# Altium schematic symbol library Diodes-TVS-ESD-LEDs.SchLib: 8 symbols
Pins are listed as number, name and electrical type; pins without a type are passive.

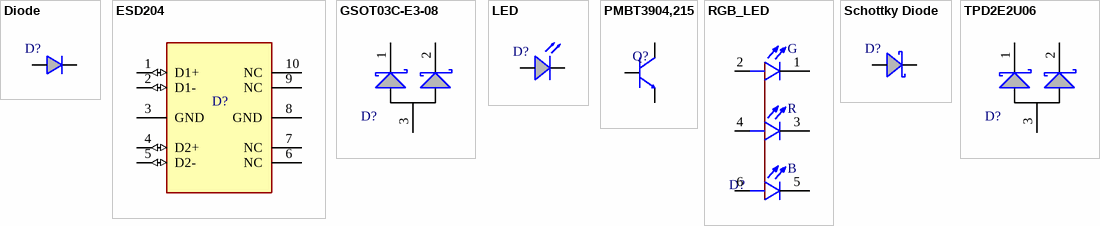
[diagram p0: symbols Diode to TPD2E2U06]

## Diode
designator D?  (value not drawn)
ComponentLink1Description: New link; ComponentLink1URL: *; value: *
footprint DO-219AB
pins: A, C K

## ESD204
designator D?, comment ESD Protection  (value not drawn)
ESD / Quad 0.55-pF, ±3.6-V, ±30-kV ESD protection diode with 5.5A surge rating for USB & HDMI; ComponentLink1Description: New link
footprint USON-10 (ESD204)
pins: 1 D1+ (io), 2 D1- (io), 3 GND (power), 4 D2+ (io), 5 D2- (io), 6 NC, 7 NC, 8 GND (power), 9 NC, 10 NC

## GSOT03C-E3-08
designator D?, comment TVS  (value not drawn)
12.3V Clamp 30A (8/20µs) Ipp Tvs Diode Surface Mount SOT-23-3; ComponentLink1Description: New link; ComponentLink1URL: *; value: *
footprint SOT-23-3
pins: 1 K1, 2 K2, 3 A

## LED
designator D?  (value not drawn)
ComponentLink1Description: New link; ComponentLink1URL: *; value: *
footprint LED_0603
pins: A, C K

## PMBT3904,215
designator Q?, comment Transistor NPN  (value not drawn)
Bipolar (BJT) Transistor NPN 40 V 200 mA 300MHz 250 mW Surface Mount TO-236AB; ComponentLink1Description: New link; ComponentLink1URL: *; value: *
footprint SOT-23-3
pins: 1 B, 2 E, 3 C

## RGB_LED
designator D?  (value not drawn)
ComponentLink1Description: New link; ComponentLink1URL: *; value: *
footprint LED_0606
pins: 1 G_C, 2 G_A, 3 R_C, 4 R_A, 5 B_C, 6 B_A
text: G; R; B

## Schottky Diode
designator D?  (value not drawn)
Schottky Diodes & Rectifiers; ComponentLink1Description: New link; ComponentLink1URL: *; value: *
footprint DO-214AC-2
footprint DO-219AD
pins: A, C K

## TPD2E2U06
designator D?, comment ESD Protection  (value not drawn)
Dual 1.5-pF, 5.5-V, ±25-kV ESD protection diode with 5.5-A 8/20-uS surge rating for USB 2.0; ComponentLink1Description: New link; ComponentLink1URL: *; value: *
footprint SOT-23-3
pins: 1 K1, 2 K2, 3 A